# EAGLE library part NRF24I01 (library NRF24I01)
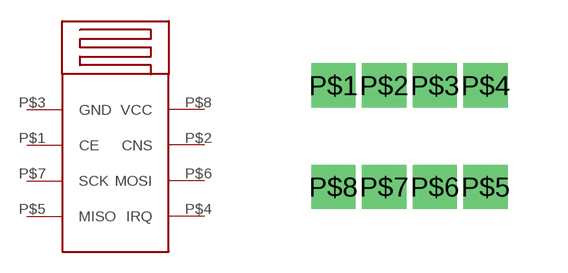
[diagram p0: symbol with the pads of NOT_FOOTPRINT; footprint NOT_FOOTPRINT]

Designator prefix -

## NRF24I01  [NOT_FOOTPRINT]
P$1  CE
P$2  CNS
P$3  GND
P$4  IRQ
P$5  MISO
P$6  MOSI
P$7  SCK
P$8  VCC

## Footprint NOT_FOOTPRINT (pad centres in mm)
drill 0.6 square: P$1 -2.54,1.27; P$2 -1.27,1.27; P$3 0,1.27; P$4 1.27,1.27; P$5 1.27,-1.27; P$6 0,-1.27; P$7 -1.27,-1.27; P$8 -2.54,-1.27